# Altium footprint library Modules.PcbLib: 11 footprints
Each footprint in its own frame and in the unit in brackets; x right, y up, seen from the top. Pads: shape width x height; smd on the part's side, far side on the other; paste and mask are expansions set on the pad; w line width, h text height; cw(c..) or ccw(c..) is an arc to the next point about the centre after c.
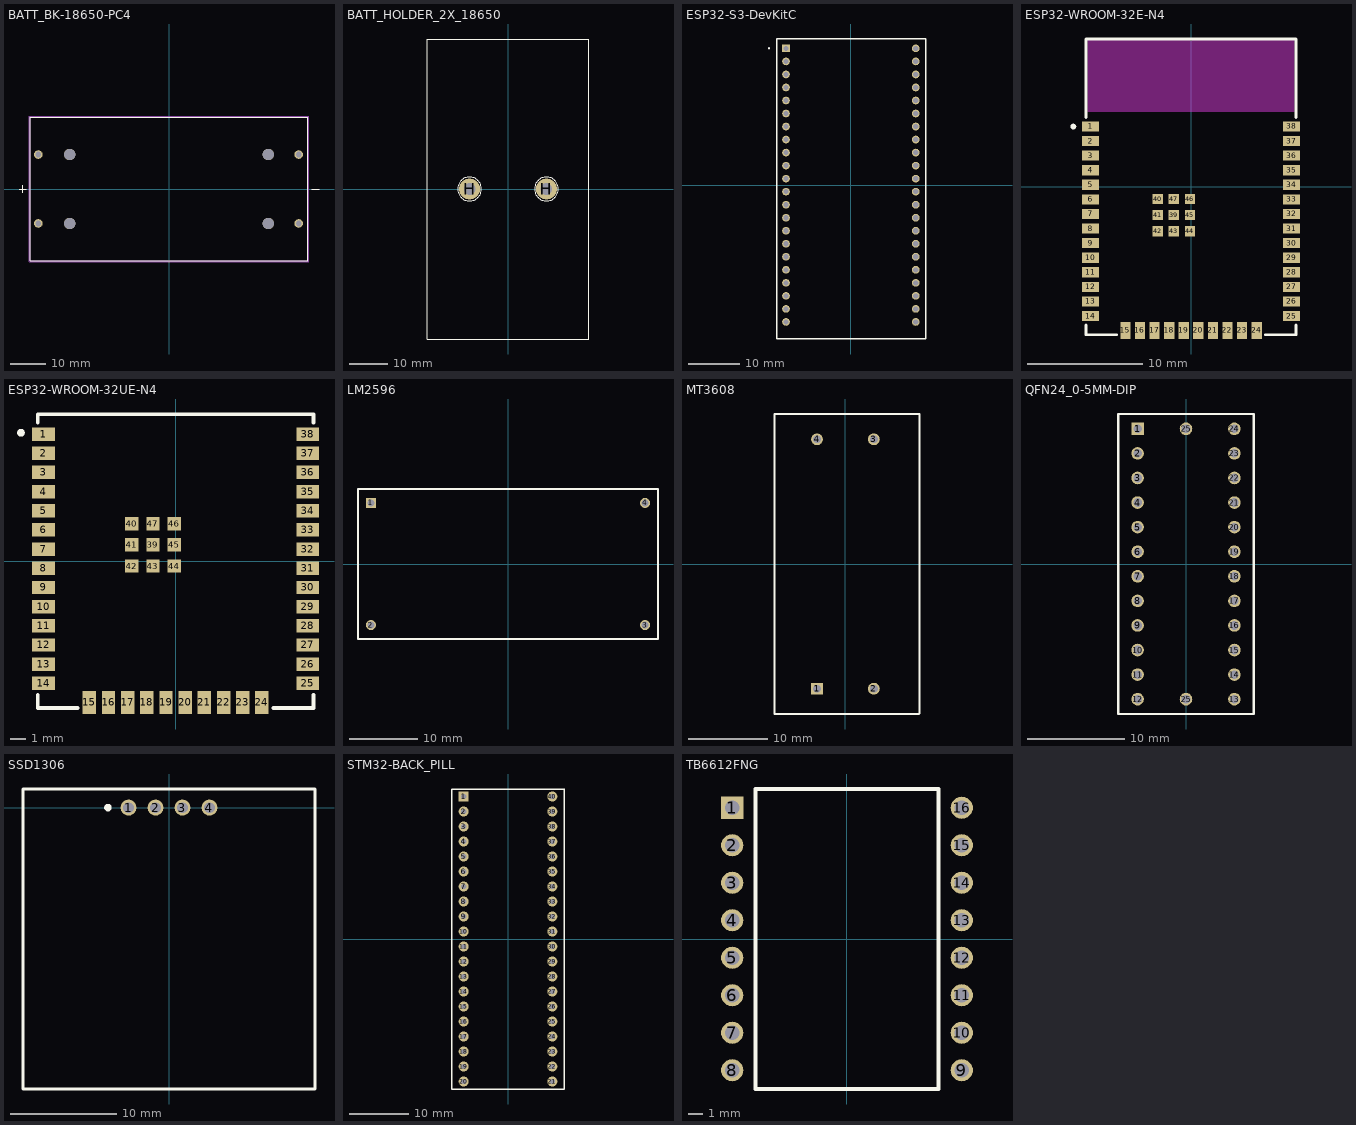
[diagram p0: the footprints below, top view; thin cyan lines are the x and y axes]

## BATT_BK-18650-PC4 [mm]
pads (8):
  round 2.4 hole 1.6: N1(36.3,9.65) N2(36.3,-9.65) P1(-36.6,9.65) P2(-36.6,-9.65)
  round 3.2 hole 3.2 unplated: ""(-27.81,-9.65) ""(-27.81,9.65) ""(27.81,-9.65) ""(27.81,9.65)
Top Overlay:
  lines w0.2: -42,0 -40,0 ; -41,-1 -41,1 ; 40,0 42,0 ; -38.85,-20.105 -38.85,20.105 38.85,20.105 38.85,-20.105 -38.85,-20.105
Mechanical 13:
  lines w0.2: -42,0 -40,0 ; -41,-1 -41,1 ; 40,0 42,0 ; -38.85,-20.105 -38.85,20.105 38.85,20.105 38.85,-20.105 -38.85,-20.105
Mechanical 15:
  lines w0.2: -39.1,-20.355 -39.1,20.355 39.1,20.355 39.1,-20.355 -39.1,-20.355
3D body "BK-18650-PC4.STEP": height 21.74, standoff -3, extent -38.85,-20.105 38.85,20.105

## BATT_HOLDER_2X_18650 [mm]
pads (2):
  round 5.5 hole 3: H(-10,0) H(10,0)
Top Overlay:
  circle w0.254: c-10,0 r3.1
  circle w0.254: c10,0 r3.1
  lines w0.254: -21,-39 21,-39 21,39 -21,39 -21,-39
3D body "BATTERY HOLDER x2.stp": height 18.8, standoff -0.2, extent -20.5,-38 20.5,38

## ESP32-S3-DevKitC [mm]
pads (44):
  rect 1.5x1.5 / inner round 1.5 / far side rect 1.5x1.5 hole 1: J1_1(-12.65,26.67)
  round 1.5 hole 1: J1_2(-12.65,24.13) J1_3(-12.65,21.59) J1_4(-12.65,19.05) J1_5(-12.65,16.51) J1_6(-12.65,13.97) J1_7(-12.65,11.43) J1_8(-12.65,8.89) J1_9(-12.65,6.35) J1_10(-12.65,3.81) J1_11(-12.65,1.27) J1_12(-12.65,-1.27) J1_13(-12.65,-3.81) J1_14(-12.65,-6.35) J1_15(-12.65,-8.89) J1_16(-12.65,-11.43) J1_17(-12.65,-13.97) J1_18(-12.65,-16.51) J1_19(-12.65,-19.05) J1_20(-12.65,-21.59) J1_21(-12.65,-24.13) J1_22(-12.65,-26.67) J2_1(12.65,26.67) J2_2(12.65,24.13) J2_3(12.65,21.59) J2_4(12.65,19.05) J2_5(12.65,16.51) J2_6(12.65,13.97) J2_7(12.65,11.43) J2_8(12.65,8.89) J2_9(12.65,6.35) J2_10(12.65,3.81) J2_11(12.65,1.27) J2_12(12.65,-1.27) J2_13(12.65,-3.81) J2_14(12.65,-6.35) J2_15(12.65,-8.89) J2_16(12.65,-11.43) J2_17(12.65,-13.97) J2_18(12.65,-16.51) J2_19(12.65,-19.05) J2_20(12.65,-21.59) J2_21(12.65,-24.13) J2_22(12.65,-26.67)
Top Overlay:
  circle w0.254: c-15.97,26.7 r0.1
  lines w0.254: -14.47,-30 -14.47,28.5 14.55,28.5 14.55,-30 -14.47,-30
3D body "YD-ESP32-S3 v34.step": height 8.21, standoff -3.7, extent -13.975,-29.209 13.975,34.815

## ESP32-WROOM-32E-N4 [mil]
pads (47):
  rect 59x35 smd paste+0 mask+0: 1(-344.5,207.1) 2(-344.5,157.1) 3(-344.5,107.1) 4(-344.5,57.1) 5(-344.5,7.1) 6(-344.5,-42.9) 7(-344.5,-92.9) 8(-344.5,-142.9) 9(-344.5,-192.9) 10(-344.5,-242.9) 11(-344.5,-292.9) 12(-344.5,-342.9) 13(-344.5,-392.9) 14(-344.5,-442.9) 25(344.5,-442.9) 26(344.5,-392.9) 27(344.5,-342.9) 28(344.5,-292.9) 29(344.5,-242.9) 30(344.5,-192.9) 31(344.5,-142.9) 32(344.5,-92.9) 33(344.5,-42.9) 34(344.5,7.1) 35(344.5,57.1) 36(344.5,107.1) 37(344.5,157.1) 38(344.5,207.1)
  rect 35x59 smd paste+0 mask+0: 15(-225,-492.15) 16(-175,-492.15) 17(-125,-492.15) 18(-75,-492.15) 19(-25,-492.15) 20(25,-492.15) 21(75,-492.15) 22(125,-492.15) 23(175,-492.15) 24(225,-492.15)
  rect 35x35 smd paste+0 mask+0: 39(-59.1,-96.9) 40(-114.2,-41.8) 41(-114.2,-96.9) 42(-114.2,-152) 43(-59.1,-152) 44(-4,-152) 45(-4,-96.9) 46(-4,-41.8) 47(-59.1,-41.8)
Top Overlay:
  circle w10: c-403.54,206.69 r5
  lines w10: -359.5,-473.5 -359.5,-507 -255.6,-507 ; -359.5,237.7 -359.5,507 359.5,507 359.5,237.7 ; 255.6,-507 359.5,-507 359.5,-473.5
Keep-Out Layer:
  region: 354.5,258 354.5,502 -354.5,502 -354.5,258
3D body "ESP32-WROOM-32E-N4.STEP": height 127.95, standoff 0, extent -354.33,-501.97 354.33,501.97

## ESP32-WROOM-32UE-N4 [mil]
pads (47):
  rect 59x35 smd paste+0 mask+0: 1(-344.49,331.1) 2(-344.49,281.1) 3(-344.49,231.1) 4(-344.49,181.1) 5(-344.49,131.1) 6(-344.49,81.1) 7(-344.49,31.1) 8(-344.49,-18.9) 9(-344.49,-68.9) 10(-344.49,-118.9) 11(-344.49,-168.9) 12(-344.49,-218.9) 13(-344.49,-268.9) 14(-344.49,-318.9) 25(344.49,-318.9) 26(344.49,-268.9) 27(344.49,-218.9) 28(344.49,-168.9) 29(344.49,-118.9) 30(344.49,-68.9) 31(344.49,-18.9) 32(344.49,31.1) 33(344.49,81.1) 34(344.49,131.1) 35(344.49,181.1) 36(344.49,231.1) 37(344.49,281.1) 38(344.49,331.1)
  rect 35x59 smd paste+0 mask+0: 15(-225,-368.9) 16(-175,-368.9) 17(-125,-368.9) 18(-75,-368.9) 19(-25,-368.9) 20(25,-368.9) 21(75,-368.9) 22(125,-368.9) 23(175,-368.9) 24(225,-368.9)
  rect 35x35 smd paste+0 mask+0: 39(-59.06,42.13) 40(-114.17,97.24) 41(-114.17,42.13) 42(-114.17,-12.99) 43(-59.06,-12.99) 44(-3.94,-12.99) 45(-3.94,42.13) 46(-3.94,97.24) 47(-59.06,97.24)
Top Overlay:
  circle w10: c-403.54,334.65 r5
  lines w10: -359.5,-349.5 -359.5,-383 -255.6,-383 ; -359.5,361.7 -359.5,383 359.5,383 359.5,361.7 ; 255.6,-383 359.5,-383 359.5,-349.5
3D body "ESP32WROOM32UEN8.STEP": height 131.89, standoff 0, extent -354.33,-377.95 354.33,377.95

## LM2596 [mm]
pads (4):
  rect 1.5x1.5 hole 1: 1(-20.1,8.95)
  round 1.5 hole 1: 2(-20.1,-8.95) 3(20.1,-8.95) 4(20.1,8.95)
Top Overlay:
  lines w0.254: -22,-11 22,-11 22,11 -22,11 -22,-11
3D body "Montagem-LM2596.STEP": height 20.35, standoff -1.58, extent -21.55,-10.603 21.65,10.647

## MT3608 [mm]
pads (4):
  rect 1.5x1.5 hole 1: 1(-3.6,-15.8)
  round 1.5 hole 1: 2(3.6,-15.8) 3(3.6,15.8) 4(-3.6,15.8)
Top Overlay:
  lines w0.254: -9,-19 -9,19 9.4,19 9.4,-18.9 9.3,-19 -9,-19
3D body "MT3608 Converter.STEP": height 15.45, standoff -1.56, extent -8.6,-18.575 8.825,18.575

## QFN24_0-5MM-DIP [mm]
pads (26):
  rect 1.3x1.3 hole 0.9: 1(-5,13.97)
  round 1.3 hole 0.9: 2(-5,11.43) 3(-5,8.89) 4(-5,6.35) 5(-5,3.81) 6(-5,1.27) 7(-5,-1.27) 8(-5,-3.81) 9(-5,-6.35) 10(-5,-8.89) 11(-5,-11.43) 12(-5,-13.97) 13(5,-13.97) 14(5,-11.43) 15(5,-8.89) 16(5,-6.35) 17(5,-3.81) 18(5,-1.27) 19(5,1.27) 20(5,3.81) 21(5,6.35) 22(5,8.89) 23(5,11.43) 24(5,13.97) 25(0,-13.97) 25(0,13.97)
Top Overlay:
  lines w0.254: -7,-15.5 7,-15.5 7,15.5 -7,15.5 -7,-15.5

## SSD1306 [mm]
pads (4):
  round 1.5 hole 1: 1(-3.81,0) 2(-1.27,0) 3(1.27,0) 4(3.81,0)
Top Overlay:
  circle w0.5: c-5.75,0 r0.1
  lines w0.254: -13.75,-26.5 -13.75,1.75 13.75,1.75 13.75,-26.5 -13.75,-26.5
3D body "OLED TFT 0.96 inch 64x128 monochrome.STEP": height 5.6, standoff -6.7, extent -13.65,-26.3 13.65,1.5

## STM32-BACK_PILL [mm]
pads (40):
  rect 1.7x1.7 hole 0.9: 1(-7.5,24.13)
  round 1.7 hole 0.9: 2(-7.5,21.59) 3(-7.5,19.05) 4(-7.5,16.51) 5(-7.5,13.97) 6(-7.5,11.43) 7(-7.5,8.89) 8(-7.5,6.35) 9(-7.5,3.81) 10(-7.5,1.27) 11(-7.5,-1.27) 12(-7.5,-3.81) 13(-7.5,-6.35) 14(-7.5,-8.89) 15(-7.5,-11.43) 16(-7.5,-13.97) 17(-7.5,-16.51) 18(-7.5,-19.05) 19(-7.5,-21.59) 20(-7.5,-24.13) 21(7.5,-24.13) 22(7.5,-21.59) 23(7.5,-19.05) 24(7.5,-16.51) 25(7.5,-13.97) 26(7.5,-11.43) 27(7.5,-8.89) 28(7.5,-6.35) 29(7.5,-3.81) 30(7.5,-1.27) 31(7.5,1.27) 32(7.5,3.81) 33(7.5,6.35) 34(7.5,8.89) 35(7.5,11.43) 36(7.5,13.97) 37(7.5,16.51) 38(7.5,19.05) 39(7.5,21.59) 40(7.5,24.13)
Top Overlay:
  lines w0.254: -9.5,-25.4 9.5,-25.4 9.5,25.4 -9.5,25.4 -9.5,-25.4
3D body "Black Pill.step": height 7.96, standoff -5.46, extent -10.16,-29.97 10.16,26.67

## TB6612FNG [mm]
pads (16):
  rect 1.5x1.5 hole 1: 1(-7.775,8.89)
  round 1.5 hole 1: 2(-7.775,6.35) 3(-7.775,3.81) 4(-7.775,1.27) 5(-7.775,-1.27) 6(-7.775,-3.81) 7(-7.775,-6.35) 8(-7.775,-8.89) 9(7.775,-8.89) 10(7.775,-6.35) 11(7.775,-3.81) 12(7.775,-1.27) 13(7.775,1.27) 14(7.775,3.81) 15(7.775,6.35) 16(7.775,8.89)
Top Overlay:
  lines w0.254: -6.19,-10.16 6.19,-10.16 6.19,10.16 -6.19,10.16 -6.19,-10.16
3D body "TB6612FNG_Lower Pins.STEP": height 10.55, standoff -1.5, extent -9.125,-10.5 9.125,10.5